# Altium schematic symbol library VTS.SchLib: 9 symbols
Pins are listed as number, name and electrical type; pins without a type are passive.

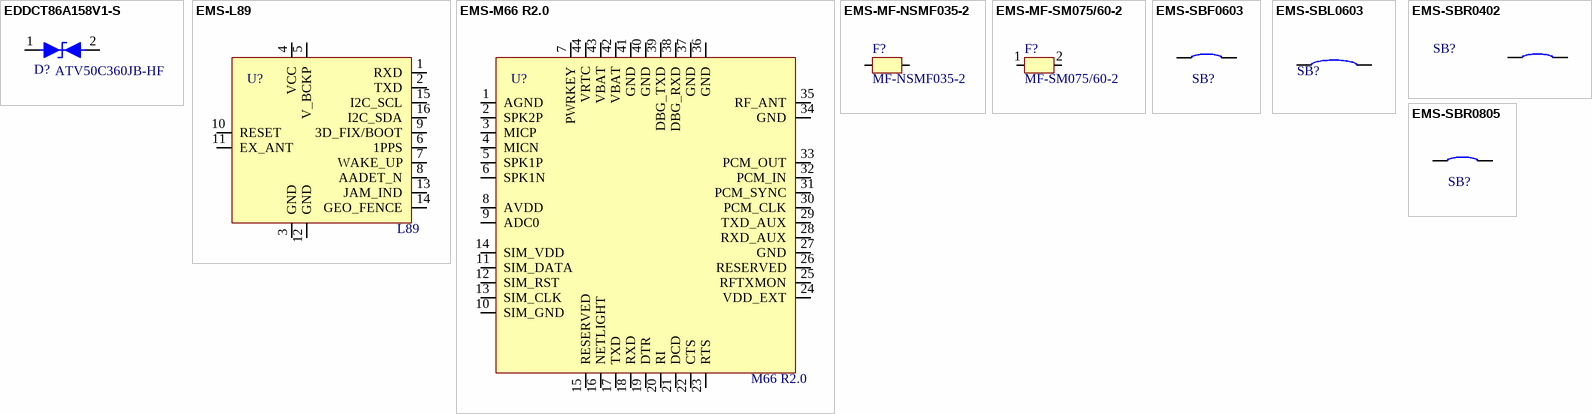
[diagram p0: symbols EDDCT86A158V1-S to EMS-SBR0805]

## EDDCT86A158V1-S
designator D?, comment value ATV50C360JB-HF  (hidden comment: TVS DIODE 36V 58.1V DO214AB)
Manufacturer: Comchip Technology; Vendor Part Number: 641-1603-1-ND; Internal Part Number: EDDCT86A158V1-S; Alternate Part1 Manufacturer: Littelfuse Inc.; Alternate Part Number 1: 5.0SMDJ36CA; Vendor Name: Digi-Key; 3rd Auxiliary Field: RoHS Compliant; 4th Auxiliary Field: AEC-Q101; Component Height (mm): 2.53mm; Temp Co: -55°C ~ 150°C (TJ); 2nd Auxiliary Field: 86.1A; Part Type: TVS DIODE 36V 58.1V DO214AB; Manufacturer Part Number: ATV50C360JB-HF; 1st Auxiliary Field: 58.1V; Alternate Part2 Manufacturer: *; Alternate Part Number 2: *
footprint DIOM6958X25N (TVS DIODE 36V 58.1V DO214AB)
pins: 1, 2

## EMS-L89
designator U?, comment value L89  (hidden comment: GNSS module series)  (net tie, no BOM)
Manufacturer: Quectel; Internal Part Number: EMS-L89; Vendor Name: custom; 3rd Auxiliary Field: RoHS Compliant; 1st Auxiliary Field: 3.1V~4.3V; Component Height (mm): 6.8mm; Temp Co: -40°C ~ +85°C; 2nd Auxiliary Field: 150 mA; Part Type: GNSS module series; Vendor Part Number: *; 4th Auxillary field: *; Manufacturer Part Number: L89
footprint L89
pins: 1 RXD, 2 TXD, 3 GND, 4 VCC, 5 V_BCKP, 6 1PPS, 7 WAKE_UP, 8 AADET_N, 9 3D_FIX/BOOT, 10 RESET, 11 EX_ANT, 12 GND, 13 JAM_IND, 14 GEO_FENCE, 15 I2C_SCL, 16 I2C_SDA

## EMS-M66 R2.0
designator U?, comment value M66 R2.0  (hidden comment: Quad-band GSM/GPRS Module)
Manufacturer: Quectel; Internal Part Number: EMS-M66 R2.0; Vendor Name: custom; 3rd Auxiliary Field: RoHS Compliant; 1st Auxiliary Field: 3.3V~4.6V; Component Height (mm): 2.3mm; Temp Co: -40°C ~ +85°C; 2nd Auxiliary Field: 1.3 mA; Part Type: Quad-band GSM/GPRS Module; Vendor Part Number: *; 4th Auxillary field: *; Manufacturer Part Number: M66 R2.0
footprint Quectel_M66 R2.0 (Footprint not found)
pins: 1 AGND, 2 SPK2P, 3 MICP, 4 MICN, 5 SPK1P, 6 SPK1N, 7 PWRKEY, 8 AVDD, 9 ADC0, 10 SIM_GND, 11 SIM_DATA, 12 SIM_RST, 13 SIM_CLK, 14 SIM_VDD, 15 RESERVED, 16 NETLIGHT, 17 TXD, 18 RXD, 19 DTR, 20 RI, 21 DCD, 22 CTS, 23 RTS, 24 VDD_EXT, 25 RFTXMON, 26 RESERVED, 27 GND, 28 RXD_AUX, 29 TXD_AUX, 30 PCM_CLK, 31 PCM_SYNC, 32 PCM_IN, 33 PCM_OUT, 34 GND, 35 RF_ANT, 36 GND, 37 GND, 38 DBG_RXD, 39 DBG_TXD, 40 GND, 41 GND, 42 VBAT, 43 VBAT, 44 VRTC

## EMS-MF-NSMF035-2
designator F?, comment value MF-NSMF035-2  (hidden comment: PTC RESET FUSE 6V 350MA 1206)
Manufacturer: Bourns Inc.; Vendor Part Number: MF-NSMF035-2CT-ND; Internal Part Number: EMS-MF-NSMF035-2; Alternate Part Number 1: NANOSMDC035F-2; Alternate Part1 Manufacturer: Littelfuse Inc.; Vendor Name: Digi-Key; 3rd Auxiliary Field: RoHS Compliant; 4th Auxiliary Field: AEC-Q200; Component Height (mm): 0.85mm; Temp Co: -40°C ~ 85°C; 2nd Auxiliary Field: 750mA; Part Type: PTC RESET FUSE 6V 350MA 1206; Manufacturer Part Number: MF-NSMF035-2; 1st Auxiliary Field: 6V; Alternate Part Number 2: *; Alternate Part2 Manufacturer: *
footprint SMDF1206
pins: 1, 2

## EMS-MF-SM075/60-2
designator F?, comment value MF-SM075/60-2  (hidden comment: PTC RESET FUSE 60V 750MA 2SMD)
Manufacturer: Bourns Inc.; Vendor Part Number: MF-SM075/60-2CT-ND; Internal Part Number: EMS-MF-SM075/60-2; Alternate Part1 Manufacturer: Littelfuse Inc.; Alternate Part Number 1: SMD075F/60-2; Alternate Part Number 2: RF0317-000; Vendor Name: Digi-Key; 3rd Auxiliary Field: RoHS Compliant; 4th Auxiliary Field: AEC-Q200; Component Height (mm): 3.18mm; Temp Co: -40°C ~ 85°C; 2nd Auxiliary Field: 10A; Part Type: PTC RESET FUSE 60V 750MA 2SMD; Manufacturer Part Number: MF-SM075/60-2; 1st Auxiliary Field: 60V; Alternate Part2 Manufacturer: Littelfuse Inc.
footprint Fuse_MF-SM075/60-2 (PTC RESET FUSE 60V 750MA 2SMD)
pins: 1, 2

## EMS-SBF0603
designator SB?, comment SOLDER BRDIGE  (value not drawn)  (net tie, no BOM)
Internal Part Number: EMS-SBF0603; Manufacturer: *; Part Type: SOLDER BRDIGE; Vendor Name: *; Vendor Part Number: *; 3rd Auxiliary Field: *; Manufacturer Part Number: *; 4th Auxiliary Field: *; Component Height (mm): *; Temp Co: *; Alternate Part1 Manufacturer: *; Alternate Part2 Manufacturer: *; Alternate Part Number 1: *; Alternate Part Number 2: *; 2nd Auxiliary Field: *; 1st Auxiliary Field: *; Value: *
footprint SB_0603_25
pins: 1, 2

## EMS-SBL0603
designator SB?, comment SOLDER BRDIGE  (value not drawn)  (net tie, no BOM)
Internal Part Number: EMS-SBL0603; Manufacturer Part Number: *; Manufacturer: *; 3rd Auxiliary Field: *; Component Height (mm): *; Part Type: SOLDER BRDIGE; Temp Co: *; 4th Auxiliary Field: *; Vendor Name: *; Vendor Part Number: *; 2nd Auxiliary Field: *; 1st Auxiliary Field: *; Value: *
footprint SBL_0603 (Footprint not found)
pins: 1, 2

## EMS-SBR0402
designator SB?, comment SOLDER BRIDGE  (value not drawn)  (net tie, no BOM)
Manufacturer Part Number: EMS-SBR0402; Manufacturer: *; Part Type: SOLDER BRIDGE; Vendor Name: *; Vendor Part Number: *; 3rd Auxiliary Field: *; Internal Part Number: *; 4th Auxiliary Field: *; Component Height (mm): *; Temp Co: *; Alternate Part1 Manufacturer: *; Alternate Part2 Manufacturer: *; Alternate Part Number 1: *; Alternate Part Number 2: *; 2nd Auxiliary Field: *; 1st Auxiliary Field: *; Value: *
footprint SB_0402
pins: 1, 2

## EMS-SBR0805
designator SB?, comment SOLDER BRDIGE  (value not drawn)  (net tie, no BOM)
Internal Part Number: EMS-SBR0805; Manufacturer: *; Part Type: SOLDER BRDIGE; Vendor Name: *; Vendor Part Number: *; 3rd Auxiliary Field: *; Manufacturer Part Number: *; 4th Auxiliary Field: *; Component Height (mm): *; Temp Co: *; Alternate Part1 Manufacturer: *; Alternate Part2 Manufacturer: *; Alternate Part Number 1: *; Alternate Part Number 2: *; 2nd Auxiliary Field: *; 1st Auxiliary Field: *; Value: *
footprint SB_0805
pins: 1, 2